# Altium schematic symbol library LS7366R.SchLib: 1 symbol
Pins are listed as number, name and electrical type; pins without a type are passive.

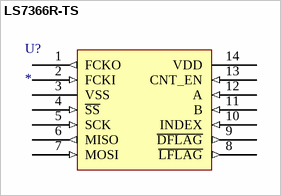
[diagram p0: symbol LS7366R-TS]

## LS7366R-TS
designator U?
32-Bit Quadrature Clock Counter with Serial Interface; Manufacturer Part Number: LS7366R-TS; Manufacturer: LSI/CSI; Case/Package: TSSOP; ComponentLink1Description: Datasheet; ComponentLink1URL: https://lsicsi.com/datasheets/LS7366R.pdf; Number of Pins: 14; Packaging: Tray; Supplier 1: LSI/CSI; Supplier Part Number 1: LS7366R-TS; Stock 1: 10000; Lead Free: Lead Free; RoHS: Yes; Pricing 1: 1 = 3.96000, 25 = 3.16000, 100 = 2.51000, 500 = 2.01000, 1000 = 1.61000, 5000 = 1.37000, 10000 = 1.17000 (USD); ComponentLink2Description: Manufacturer's Website; ComponentLink2URL: https://lsicsi.com/#/products/Incremental-Encoder-Interface/LS7366R_LS7366R-S_LS7366R-TS
footprint TSOP65P640X110-14M (TSOP, 14-Leads, Body 5.00x4.40mm, Pitch 0.65mm, IPC Low Density)
pins: 1 FCKO (out), 2 FCKI (in), 3 VSS (power), 4 ~{SS} (in), 5 SCK (in), 6 MISO (out), 7 MOSI (in), 8 ~{LFLAG} (out), 9 ~{DFLAG} (out), 10 INDEX (in), 11 B (in), 12 A (in), 13 CNT_EN (in), 14 VDD (power)